# Altium schematic symbol library AB0001.01.A.3.SchLib: 1 symbol
Pins are listed as number, name and electrical type; pins without a type are passive.

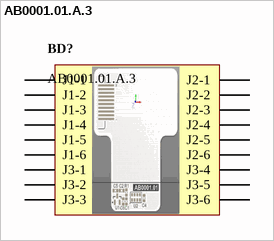
[diagram p0: symbol AB0001.01.A.3]

## AB0001.01.A.3
designator BD?  (no BOM)
pins: J1-1, J1-2, J1-3, J1-4, J1-5, J1-6, J2-1, J2-2, J2-3, J2-4, J2-5, J2-6, J3-1, J3-2, J3-3, J3-4, J3-5, J3-6